# EAGLE library part DG2722 (library PP_AnalogIC)
Manufacturer Part #: DG2722DN-T1-E4 Manufacturer: Vishay Semiconductors Description: USB Switch ICs DPDT 2-Port USB 2.0 High Speed (480Mbps)
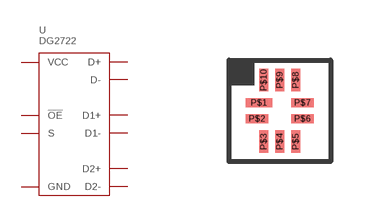
[diagram p3: symbol with the pads of DG2722_QFN-10L; footprint DG2722_QFN-10L]

Designator prefix U

## DG2722DN-T1-E4 (POPULATE: 1)  [DG2722_QFN-10L]
P$1  D+
P$2  D-
P$3  GND
P$4  D2-
P$5  D2+
P$6  D1-
P$7  D1+
P$8  !OE
P$9  VCC
P$10  S

## Footprint DG2722_QFN-10L (pad centres in mm)
smd 0.663 x 0.225: P$1 -0.518,0.2
smd 0.563 x 0.225: P$2 -0.569,-0.2; P$6 0.569,-0.2; P$7 0.569,0.2
smd 0.225 x 0.563: P$3 -0.4,-0.768; P$4 0,-0.768; P$5 0.4,-0.768; P$8 0.4,0.768; P$9 0,0.768; P$10 -0.4,0.768